# Altium integrated library Linear Technology Power Management Switching Regulator LTC1174-LTC3901.IntLib: 2647 symbols (part 36 of 364)
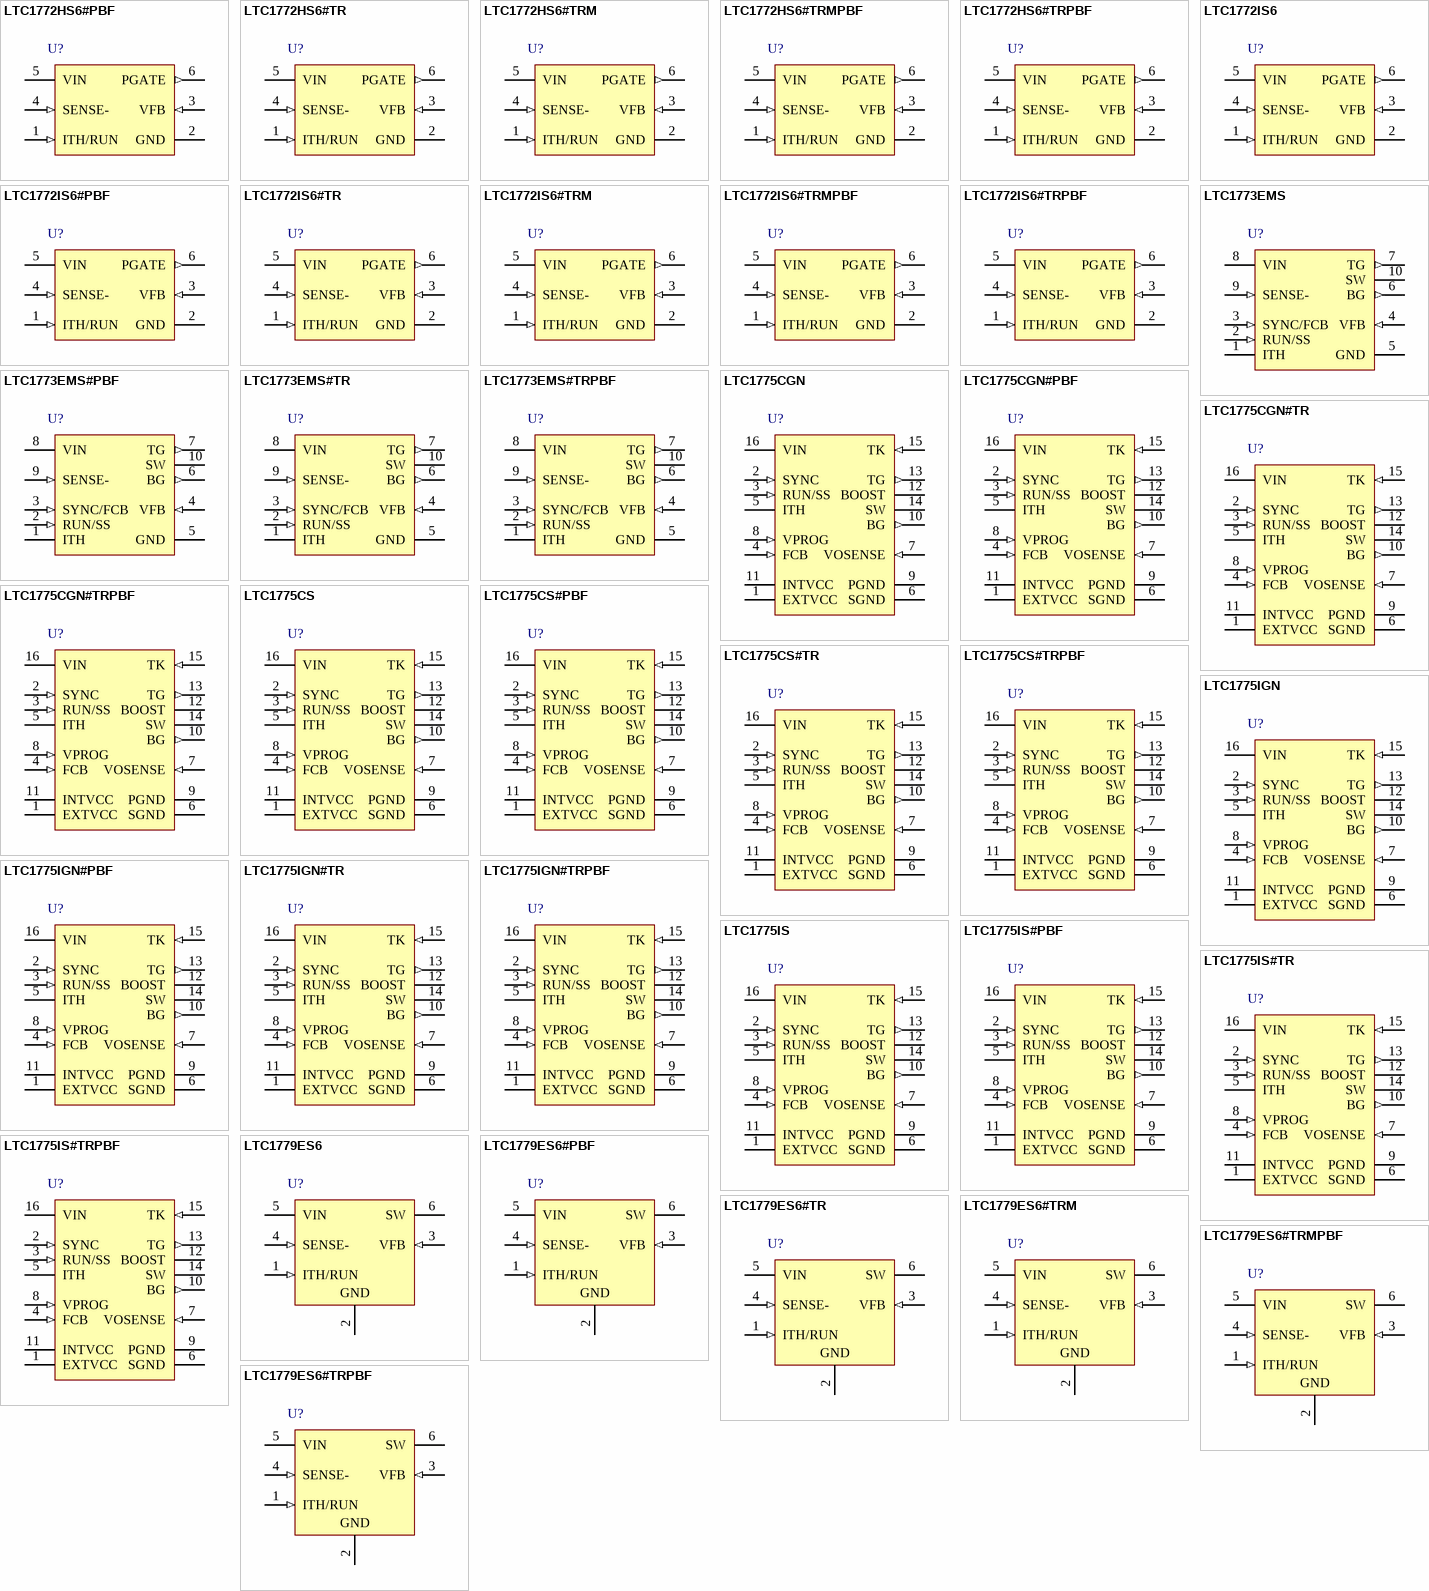
[diagram p134: symbols LTC1772HS6#PBF to LTC1779ES6#TRPBF]

## LTC1775IGN#TR
designator U?
High Power No Rsense(TM) Current Mode Synchronous Step-Down Switching Regulator, 16-pin SOP (GN-16), -40 to 85 degC, Tape and Reel; Manufacturer: Linear Technology; PartNumber: LTC1775IGN#TR; Frequency Sync Range: 150kHz - 225kHz; Number of Outputs: 1; PackageVersion: Rev. B, 03/2012; PackageReference: GN-16; PackageDescription: 16-Pin Plastic SSOP, Body 4.9 x 3.9 mm, Pitch 0.635 mm; Supplier 1: Digi-Key; Supplier Part Number 1: LTC1775IGN#TR-ND; Packing: Tape and Reel; RoHS: FALSE; Mounting Technology: Surface Mount; ComponentLink1Description: Manufacturer URL; ComponentLink1URL: http://www.linear.com/; ComponentLink2Description: Datasheet; ComponentLink2URL: http://cds.linear.com/docs/en/datasheet/1775f.pdf; ComponentLink3Description: Package Specification; ComponentLink3URL: http://cds.linear.com/docs/en/packaging/05081641_B_GN16.pdf
footprint LT-GN-16_N (SOP, 16-Leads, Body 5x4mm, Pitch 0.635mm, IPC Medium Density)
footprint LT-GN-16_L (SOP, 16-Leads, Body 5x4mm, Pitch 0.635mm, IPC High Density)
footprint LT-GN-16_M (SOP, 16-Leads, Body 5x4mm, Pitch 0.635mm, IPC Low Density)
pins: 1 EXTVCC (power) "INTVCC Switch Input. When the EXTVCC voltage is above 4.7V, the switch closes and supplies INTVCC power from EXTVCC. Do not exceed 7V at this pin.", 2 SYNC (in) "Synchronization Input for Internal Oscillator. The oscillator will nominally run at 150kHz when open, 225kHz when tied above 1.2V, and will lock over a 1.5:1 clock frequency range.", 3 RUN/SS (in) "Run Control and Soft Start Input. A capacitor to ground at this pin sets the ramp time to full current output (approximately 1s/uF). Forcing this pin below 1.4V shuts down the device.", 4 FCB (in) "Forced Continuous Input. Tie this pin to ground to force synchronous operation at low load currents, to a resistive divider from the secondary output when using a secondary winding, or to INTVCC to enable Burst Mode (See Datasheet)", 5 ITH "Error Amplifier Compensation Point. The current comparator threshold increases with this control voltage, forcing inductor current to be roughly proportional to VITH. Nominal voltage range for this pin is 0V to 2.4V.", 6 SGND (power) "Signal Ground. Connect to the (-) terminal of COUT.", 7 VOSENSE (in) "Output Voltage Sense. Feedback input from the remotely sensed output voltage or from an external resistive divider across the output.", 8 VPROG (in) "Output Voltage Programming. When VOSENSE is connected to the output, VPROG < 0.8V selects a 3.3V output and VPROG > 3.5V selects a 5V output.Leaving VPROG open allows the output voltage to be set by an external resistive (See Datasheet)", 9 PGND (power) "Driver Power Ground. Connects to the source of the bottom N channel MOSFET, the (-) terminal of CVCC and the (-) terminal of CIN.", 10 BG (out) "Bottom Gate Drive. Drives the gate of the bottom N-channel MOSFET between ground and INTVCC.", 11 INTVCC (power) "Internal 5.2V Regulator Output. The driver and control circuits are powered from this voltage. Decouple this pin to power ground with a minimum of 4.7uF tantalum or other low ESR capacitor.", 12 BOOST "Topside Floating Driver Supply. The (+) terminal of the bootstrap capacitor connects here. This pin swings from a Schottky diode drop below INTVCC to VIN + INTVCC.", 13 TG (out) "Top Gate Drive. Drives the top N-channel MOSFET with a voltage swing equal to INTVCC superimposed on the switch node voltage.", 14 SW "Switch Node. The (-) terminal of the bootstrap capacitor connects here. This pin swings from a diode drop below ground up to VIN.", 15 TK (in) "Top MOSFET Kelvin Sense. MOSFET VDS sensing requires this pin to be routed to the drain of the top MOSFET separately from VIN.", 16 VIN (power) "Main Supply Input. Decouple this pin to ground with an RC filter (1ohm, 0.1uF) for applications above 3A."

## LTC1775IGN#TRPBF
designator U?
High Power No Rsense(TM) Current Mode Synchronous Step-Down Switching Regulator, 16-pin SOP (GN-16), -40 to 85 degC, Pb-Free, Tape and Reel; Manufacturer: Linear Technology; PartNumber: LTC1775IGN#TRPBF; Frequency Sync Range: 150kHz - 225kHz; Number of Outputs: 1; PackageVersion: Rev. B, 03/2012; PackageReference: GN-16; PackageDescription: 16-Pin Plastic SSOP, Body 4.9 x 3.9 mm, Pitch 0.635 mm; Supplier 1: Digi-Key; Supplier Part Number 1: LTC1775IGN#TRPBF-ND; Supplier 2: Newark; Supplier Part Number 2: 56M3788; Packing: Tape and Reel; RoHS: TRUE; Mounting Technology: Surface Mount; ComponentLink1Description: Manufacturer URL; ComponentLink1URL: http://www.linear.com/; ComponentLink2Description: Datasheet; ComponentLink2URL: http://cds.linear.com/docs/en/datasheet/1775f.pdf; ComponentLink3Description: Package Specification; ComponentLink3URL: http://cds.linear.com/docs/en/packaging/05081641_B_GN16.pdf
footprint LT-GN-16_N (SOP, 16-Leads, Body 5x4mm, Pitch 0.635mm, IPC Medium Density)
footprint LT-GN-16_L (SOP, 16-Leads, Body 5x4mm, Pitch 0.635mm, IPC High Density)
footprint LT-GN-16_M (SOP, 16-Leads, Body 5x4mm, Pitch 0.635mm, IPC Low Density)
pins: 1 EXTVCC (power) "INTVCC Switch Input. When the EXTVCC voltage is above 4.7V, the switch closes and supplies INTVCC power from EXTVCC. Do not exceed 7V at this pin.", 2 SYNC (in) "Synchronization Input for Internal Oscillator. The oscillator will nominally run at 150kHz when open, 225kHz when tied above 1.2V, and will lock over a 1.5:1 clock frequency range.", 3 RUN/SS (in) "Run Control and Soft Start Input. A capacitor to ground at this pin sets the ramp time to full current output (approximately 1s/uF). Forcing this pin below 1.4V shuts down the device.", 4 FCB (in) "Forced Continuous Input. Tie this pin to ground to force synchronous operation at low load currents, to a resistive divider from the secondary output when using a secondary winding, or to INTVCC to enable Burst Mode (See Datasheet)", 5 ITH "Error Amplifier Compensation Point. The current comparator threshold increases with this control voltage, forcing inductor current to be roughly proportional to VITH. Nominal voltage range for this pin is 0V to 2.4V.", 6 SGND (power) "Signal Ground. Connect to the (-) terminal of COUT.", 7 VOSENSE (in) "Output Voltage Sense. Feedback input from the remotely sensed output voltage or from an external resistive divider across the output.", 8 VPROG (in) "Output Voltage Programming. When VOSENSE is connected to the output, VPROG < 0.8V selects a 3.3V output and VPROG > 3.5V selects a 5V output.Leaving VPROG open allows the output voltage to be set by an external resistive (See Datasheet)", 9 PGND (power) "Driver Power Ground. Connects to the source of the bottom N channel MOSFET, the (-) terminal of CVCC and the (-) terminal of CIN.", 10 BG (out) "Bottom Gate Drive. Drives the gate of the bottom N-channel MOSFET between ground and INTVCC.", 11 INTVCC (power) "Internal 5.2V Regulator Output. The driver and control circuits are powered from this voltage. Decouple this pin to power ground with a minimum of 4.7uF tantalum or other low ESR capacitor.", 12 BOOST "Topside Floating Driver Supply. The (+) terminal of the bootstrap capacitor connects here. This pin swings from a Schottky diode drop below INTVCC to VIN + INTVCC.", 13 TG (out) "Top Gate Drive. Drives the top N-channel MOSFET with a voltage swing equal to INTVCC superimposed on the switch node voltage.", 14 SW "Switch Node. The (-) terminal of the bootstrap capacitor connects here. This pin swings from a diode drop below ground up to VIN.", 15 TK (in) "Top MOSFET Kelvin Sense. MOSFET VDS sensing requires this pin to be routed to the drain of the top MOSFET separately from VIN.", 16 VIN (power) "Main Supply Input. Decouple this pin to ground with an RC filter (1ohm, 0.1uF) for applications above 3A."

## LTC1775IS
designator U?
High Power No Rsense(TM) Current Mode Synchronous Step-Down Switching Regulator, 16-pin SOP (S-16), -40 to 85 degC; Manufacturer: Linear Technology; PartNumber: LTC1775IS; Frequency Sync Range: 150kHz - 225kHz; Number of Outputs: 1; PackageVersion: Rev. G, 05/2012; PackageReference: S-16; PackageDescription: 16-Pin Plastic Small Outline, Body 9.9 x 3.9 mm, Pitch 1.27 mm; Supplier 1: Digi-Key; Supplier Part Number 1: LTC1775IS-ND; Supplier 2: Newark; Supplier Part Number 2: 56M3789; RoHS: FALSE; Mounting Technology: Surface Mount; ComponentLink1Description: Manufacturer URL; ComponentLink1URL: http://www.linear.com/; ComponentLink2Description: Datasheet; ComponentLink2URL: http://cds.linear.com/docs/en/datasheet/1775f.pdf; ComponentLink3Description: Package Specification; ComponentLink3URL: http://cds.linear.com/docs/en/packaging/S16%2005-08-1610%20Rev%20G.pdf
footprint LT-S-16_N (SOP, 16-Leads, Body 10x4mm, Pitch 1.27mm, IPC Medium Density)
footprint LT-S-16_L (SOP, 16-Leads, Body 10x4mm, Pitch 1.27mm, IPC High Density)
footprint LT-S-16_M (SOP, 16-Leads, Body 10x4mm, Pitch 1.27mm, IPC Low Density)
pins: 1 EXTVCC (power) "INTVCC Switch Input. When the EXTVCC voltage is above 4.7V, the switch closes and supplies INTVCC power from EXTVCC. Do not exceed 7V at this pin.", 2 SYNC (in) "Synchronization Input for Internal Oscillator. The oscillator will nominally run at 150kHz when open, 225kHz when tied above 1.2V, and will lock over a 1.5:1 clock frequency range.", 3 RUN/SS (in) "Run Control and Soft Start Input. A capacitor to ground at this pin sets the ramp time to full current output (approximately 1s/uF). Forcing this pin below 1.4V shuts down the device.", 4 FCB (in) "Forced Continuous Input. Tie this pin to ground to force synchronous operation at low load currents, to a resistive divider from the secondary output when using a secondary winding, or to INTVCC to enable Burst Mode (See Datasheet)", 5 ITH "Error Amplifier Compensation Point. The current comparator threshold increases with this control voltage, forcing inductor current to be roughly proportional to VITH. Nominal voltage range for this pin is 0V to 2.4V.", 6 SGND (power) "Signal Ground. Connect to the (-) terminal of COUT.", 7 VOSENSE (in) "Output Voltage Sense. Feedback input from the remotely sensed output voltage or from an external resistive divider across the output.", 8 VPROG (in) "Output Voltage Programming. When VOSENSE is connected to the output, VPROG < 0.8V selects a 3.3V output and VPROG > 3.5V selects a 5V output.Leaving VPROG open allows the output voltage to be set by an external resistive (See Datasheet)", 9 PGND (power) "Driver Power Ground. Connects to the source of the bottom N channel MOSFET, the (-) terminal of CVCC and the (-) terminal of CIN.", 10 BG (out) "Bottom Gate Drive. Drives the gate of the bottom N-channel MOSFET between ground and INTVCC.", 11 INTVCC (power) "Internal 5.2V Regulator Output. The driver and control circuits are powered from this voltage. Decouple this pin to power ground with a minimum of 4.7uF tantalum or other low ESR capacitor.", 12 BOOST "Topside Floating Driver Supply. The (+) terminal of the bootstrap capacitor connects here. This pin swings from a Schottky diode drop below INTVCC to VIN + INTVCC.", 13 TG (out) "Top Gate Drive. Drives the top N-channel MOSFET with a voltage swing equal to INTVCC superimposed on the switch node voltage.", 14 SW "Switch Node. The (-) terminal of the bootstrap capacitor connects here. This pin swings from a diode drop below ground up to VIN.", 15 TK (in) "Top MOSFET Kelvin Sense. MOSFET VDS sensing requires this pin to be routed to the drain of the top MOSFET separately from VIN.", 16 VIN (power) "Main Supply Input. Decouple this pin to ground with an RC filter (1ohm, 0.1uF) for applications above 3A."

## LTC1775IS#PBF
designator U?
High Power No Rsense(TM) Current Mode Synchronous Step-Down Switching Regulator, 16-pin SOP (S-16), -40 to 85 degC, Pb-Free; Manufacturer: Linear Technology; PartNumber: LTC1775IS#PBF; Frequency Sync Range: 150kHz - 225kHz; Number of Outputs: 1; PackageVersion: Rev. G, 05/2012; PackageReference: S-16; PackageDescription: 16-Pin Plastic Small Outline, Body 9.9 x 3.9 mm, Pitch 1.27 mm; Supplier 1: Digi-Key; Supplier Part Number 1: LTC1775IS#PBF-ND; Supplier 2: Farnell; Supplier Part Number 2: 2295016; Supplier 3: Newark; Supplier Part Number 3: 56M3790; RoHS: TRUE; Mounting Technology: Surface Mount; ComponentLink1Description: Manufacturer URL; ComponentLink1URL: http://www.linear.com/; ComponentLink2Description: Datasheet; ComponentLink2URL: http://cds.linear.com/docs/en/datasheet/1775f.pdf; ComponentLink3Description: Package Specification; ComponentLink3URL: http://cds.linear.com/docs/en/packaging/S16%2005-08-1610%20Rev%20G.pdf
footprint LT-S-16_N (SOP, 16-Leads, Body 10x4mm, Pitch 1.27mm, IPC Medium Density)
footprint LT-S-16_L (SOP, 16-Leads, Body 10x4mm, Pitch 1.27mm, IPC High Density)
footprint LT-S-16_M (SOP, 16-Leads, Body 10x4mm, Pitch 1.27mm, IPC Low Density)
pins: 1 EXTVCC (power) "INTVCC Switch Input. When the EXTVCC voltage is above 4.7V, the switch closes and supplies INTVCC power from EXTVCC. Do not exceed 7V at this pin.", 2 SYNC (in) "Synchronization Input for Internal Oscillator. The oscillator will nominally run at 150kHz when open, 225kHz when tied above 1.2V, and will lock over a 1.5:1 clock frequency range.", 3 RUN/SS (in) "Run Control and Soft Start Input. A capacitor to ground at this pin sets the ramp time to full current output (approximately 1s/uF). Forcing this pin below 1.4V shuts down the device.", 4 FCB (in) "Forced Continuous Input. Tie this pin to ground to force synchronous operation at low load currents, to a resistive divider from the secondary output when using a secondary winding, or to INTVCC to enable Burst Mode (See Datasheet)", 5 ITH "Error Amplifier Compensation Point. The current comparator threshold increases with this control voltage, forcing inductor current to be roughly proportional to VITH. Nominal voltage range for this pin is 0V to 2.4V.", 6 SGND (power) "Signal Ground. Connect to the (-) terminal of COUT.", 7 VOSENSE (in) "Output Voltage Sense. Feedback input from the remotely sensed output voltage or from an external resistive divider across the output.", 8 VPROG (in) "Output Voltage Programming. When VOSENSE is connected to the output, VPROG < 0.8V selects a 3.3V output and VPROG > 3.5V selects a 5V output.Leaving VPROG open allows the output voltage to be set by an external resistive (See Datasheet)", 9 PGND (power) "Driver Power Ground. Connects to the source of the bottom N channel MOSFET, the (-) terminal of CVCC and the (-) terminal of CIN.", 10 BG (out) "Bottom Gate Drive. Drives the gate of the bottom N-channel MOSFET between ground and INTVCC.", 11 INTVCC (power) "Internal 5.2V Regulator Output. The driver and control circuits are powered from this voltage. Decouple this pin to power ground with a minimum of 4.7uF tantalum or other low ESR capacitor.", 12 BOOST "Topside Floating Driver Supply. The (+) terminal of the bootstrap capacitor connects here. This pin swings from a Schottky diode drop below INTVCC to VIN + INTVCC.", 13 TG (out) "Top Gate Drive. Drives the top N-channel MOSFET with a voltage swing equal to INTVCC superimposed on the switch node voltage.", 14 SW "Switch Node. The (-) terminal of the bootstrap capacitor connects here. This pin swings from a diode drop below ground up to VIN.", 15 TK (in) "Top MOSFET Kelvin Sense. MOSFET VDS sensing requires this pin to be routed to the drain of the top MOSFET separately from VIN.", 16 VIN (power) "Main Supply Input. Decouple this pin to ground with an RC filter (1ohm, 0.1uF) for applications above 3A."

## LTC1775IS#TR
designator U?
High Power No Rsense(TM) Current Mode Synchronous Step-Down Switching Regulator, 16-pin SOP (S-16), -40 to 85 degC, Tape and Reel; Manufacturer: Linear Technology; PartNumber: LTC1775IS#TR; Frequency Sync Range: 150kHz - 225kHz; Number of Outputs: 1; PackageVersion: Rev. G, 05/2012; PackageReference: S-16; PackageDescription: 16-Pin Plastic Small Outline, Body 9.9 x 3.9 mm, Pitch 1.27 mm; Supplier 1: Digi-Key; Supplier Part Number 1: LTC1775IS#TR-ND; Packing: Tape and Reel; RoHS: FALSE; Mounting Technology: Surface Mount; ComponentLink1Description: Manufacturer URL; ComponentLink1URL: http://www.linear.com/; ComponentLink2Description: Datasheet; ComponentLink2URL: http://cds.linear.com/docs/en/datasheet/1775f.pdf; ComponentLink3Description: Package Specification; ComponentLink3URL: http://cds.linear.com/docs/en/packaging/S16%2005-08-1610%20Rev%20G.pdf
footprint LT-S-16_N (SOP, 16-Leads, Body 10x4mm, Pitch 1.27mm, IPC Medium Density)
footprint LT-S-16_L (SOP, 16-Leads, Body 10x4mm, Pitch 1.27mm, IPC High Density)
footprint LT-S-16_M (SOP, 16-Leads, Body 10x4mm, Pitch 1.27mm, IPC Low Density)
pins: 1 EXTVCC (power) "INTVCC Switch Input. When the EXTVCC voltage is above 4.7V, the switch closes and supplies INTVCC power from EXTVCC. Do not exceed 7V at this pin.", 2 SYNC (in) "Synchronization Input for Internal Oscillator. The oscillator will nominally run at 150kHz when open, 225kHz when tied above 1.2V, and will lock over a 1.5:1 clock frequency range.", 3 RUN/SS (in) "Run Control and Soft Start Input. A capacitor to ground at this pin sets the ramp time to full current output (approximately 1s/uF). Forcing this pin below 1.4V shuts down the device.", 4 FCB (in) "Forced Continuous Input. Tie this pin to ground to force synchronous operation at low load currents, to a resistive divider from the secondary output when using a secondary winding, or to INTVCC to enable Burst Mode (See Datasheet)", 5 ITH "Error Amplifier Compensation Point. The current comparator threshold increases with this control voltage, forcing inductor current to be roughly proportional to VITH. Nominal voltage range for this pin is 0V to 2.4V.", 6 SGND (power) "Signal Ground. Connect to the (-) terminal of COUT.", 7 VOSENSE (in) "Output Voltage Sense. Feedback input from the remotely sensed output voltage or from an external resistive divider across the output.", 8 VPROG (in) "Output Voltage Programming. When VOSENSE is connected to the output, VPROG < 0.8V selects a 3.3V output and VPROG > 3.5V selects a 5V output.Leaving VPROG open allows the output voltage to be set by an external resistive (See Datasheet)", 9 PGND (power) "Driver Power Ground. Connects to the source of the bottom N channel MOSFET, the (-) terminal of CVCC and the (-) terminal of CIN.", 10 BG (out) "Bottom Gate Drive. Drives the gate of the bottom N-channel MOSFET between ground and INTVCC.", 11 INTVCC (power) "Internal 5.2V Regulator Output. The driver and control circuits are powered from this voltage. Decouple this pin to power ground with a minimum of 4.7uF tantalum or other low ESR capacitor.", 12 BOOST "Topside Floating Driver Supply. The (+) terminal of the bootstrap capacitor connects here. This pin swings from a Schottky diode drop below INTVCC to VIN + INTVCC.", 13 TG (out) "Top Gate Drive. Drives the top N-channel MOSFET with a voltage swing equal to INTVCC superimposed on the switch node voltage.", 14 SW "Switch Node. The (-) terminal of the bootstrap capacitor connects here. This pin swings from a diode drop below ground up to VIN.", 15 TK (in) "Top MOSFET Kelvin Sense. MOSFET VDS sensing requires this pin to be routed to the drain of the top MOSFET separately from VIN.", 16 VIN (power) "Main Supply Input. Decouple this pin to ground with an RC filter (1ohm, 0.1uF) for applications above 3A."

## LTC1775IS#TRPBF
designator U?
High Power No Rsense(TM) Current Mode Synchronous Step-Down Switching Regulator, 16-pin SOP (S-16), -40 to 85 degC, Pb-Free, Tape and Reel; Manufacturer: Linear Technology; PartNumber: LTC1775IS#TRPBF; Frequency Sync Range: 150kHz - 225kHz; Number of Outputs: 1; PackageVersion: Rev. G, 05/2012; PackageReference: S-16; PackageDescription: 16-Pin Plastic Small Outline, Body 9.9 x 3.9 mm, Pitch 1.27 mm; Supplier 1: Digi-Key; Supplier Part Number 1: LTC1775IS#TRPBF-ND; Supplier 2: Newark; Supplier Part Number 2: 56M3792; Packing: Tape and Reel; RoHS: TRUE; Mounting Technology: Surface Mount; ComponentLink1Description: Manufacturer URL; ComponentLink1URL: http://www.linear.com/; ComponentLink2Description: Datasheet; ComponentLink2URL: http://cds.linear.com/docs/en/datasheet/1775f.pdf; ComponentLink3Description: Package Specification; ComponentLink3URL: http://cds.linear.com/docs/en/packaging/S16%2005-08-1610%20Rev%20G.pdf
footprint LT-S-16_N (SOP, 16-Leads, Body 10x4mm, Pitch 1.27mm, IPC Medium Density)
footprint LT-S-16_L (SOP, 16-Leads, Body 10x4mm, Pitch 1.27mm, IPC High Density)
footprint LT-S-16_M (SOP, 16-Leads, Body 10x4mm, Pitch 1.27mm, IPC Low Density)
pins: 1 EXTVCC (power) "INTVCC Switch Input. When the EXTVCC voltage is above 4.7V, the switch closes and supplies INTVCC power from EXTVCC. Do not exceed 7V at this pin.", 2 SYNC (in) "Synchronization Input for Internal Oscillator. The oscillator will nominally run at 150kHz when open, 225kHz when tied above 1.2V, and will lock over a 1.5:1 clock frequency range.", 3 RUN/SS (in) "Run Control and Soft Start Input. A capacitor to ground at this pin sets the ramp time to full current output (approximately 1s/uF). Forcing this pin below 1.4V shuts down the device.", 4 FCB (in) "Forced Continuous Input. Tie this pin to ground to force synchronous operation at low load currents, to a resistive divider from the secondary output when using a secondary winding, or to INTVCC to enable Burst Mode (See Datasheet)", 5 ITH "Error Amplifier Compensation Point. The current comparator threshold increases with this control voltage, forcing inductor current to be roughly proportional to VITH. Nominal voltage range for this pin is 0V to 2.4V.", 6 SGND (power) "Signal Ground. Connect to the (-) terminal of COUT.", 7 VOSENSE (in) "Output Voltage Sense. Feedback input from the remotely sensed output voltage or from an external resistive divider across the output.", 8 VPROG (in) "Output Voltage Programming. When VOSENSE is connected to the output, VPROG < 0.8V selects a 3.3V output and VPROG > 3.5V selects a 5V output.Leaving VPROG open allows the output voltage to be set by an external resistive (See Datasheet)", 9 PGND (power) "Driver Power Ground. Connects to the source of the bottom N channel MOSFET, the (-) terminal of CVCC and the (-) terminal of CIN.", 10 BG (out) "Bottom Gate Drive. Drives the gate of the bottom N-channel MOSFET between ground and INTVCC.", 11 INTVCC (power) "Internal 5.2V Regulator Output. The driver and control circuits are powered from this voltage. Decouple this pin to power ground with a minimum of 4.7uF tantalum or other low ESR capacitor.", 12 BOOST "Topside Floating Driver Supply. The (+) terminal of the bootstrap capacitor connects here. This pin swings from a Schottky diode drop below INTVCC to VIN + INTVCC.", 13 TG (out) "Top Gate Drive. Drives the top N-channel MOSFET with a voltage swing equal to INTVCC superimposed on the switch node voltage.", 14 SW "Switch Node. The (-) terminal of the bootstrap capacitor connects here. This pin swings from a diode drop below ground up to VIN.", 15 TK (in) "Top MOSFET Kelvin Sense. MOSFET VDS sensing requires this pin to be routed to the drain of the top MOSFET separately from VIN.", 16 VIN (power) "Main Supply Input. Decouple this pin to ground with an RC filter (1ohm, 0.1uF) for applications above 3A."

## LTC1779ES6
designator U?
250 mA Current Mode Step-Down DC/DC Converter , 6-pin SOT23 (S6-6), -40 to 85 degC; Manufacturer: Linear Technology; PartNumber: LTC1779ES6; Number of Outputs: 1; PackageVersion: Jun-10; PackageReference: S6-6; PackageDescription: 6-Pin Plastic TSOT-23, Body 2.9 x 1.63 mm, Pitch 0.95 mm; RoHS: FALSE; Mounting Technology: Surface Mount; Code_JEDEC: MO-193; ComponentLink1Description: Manufacturer URL; ComponentLink1URL: http://www.linear.com/; ComponentLink2Description: Datasheet; ComponentLink2URL: http://cds.linear.com/docs/en/datasheet/1779f.pdf; ComponentLink3Description: Package Specification; ComponentLink3URL: http://cds.linear.com/docs/en/packaging/SOT_6_05-08-1636.pdf
footprint LT-S6-6-TSOT-23_N (SOT23, 6-Leads, Body 2.9x1.75mm, Pitch 0.95mm, IPC Medium Density)
footprint LT-S6-6-TSOT-23_L (SOT23, 6-Leads, Body 2.9x1.75mm, Pitch 0.95mm, IPC High Density)
footprint LT-S6-6-TSOT-23_M (SOT23, 6-Leads, Body 2.9x1.75mm, Pitch 0.95mm, IPC Low Density)
pins: 1 ITH/RUN (in) "This pin performs two functions. It serves as the error amplifier compensation point as well as the run control input. The current comparator threshold increases with this control voltage. Nominal voltage range for this pin (See Datasheet)", 2 GND (power) "Ground Pin.", 3 VFB (in) "Receives the feedback voltage from an external resistive divider across the output.", 4 SENSE- (in) "The Negative Input to the Current Comparator. Can be connected to VIN for default minimum peak current of 250mA. Connecting a resistor between SENSE- and VIN specifies a lower peak current. (See Applications Information for (See Datasheet)", 5 VIN (power) "Supply Pin. Must be closely decoupled to GND Pin 2.", 6 SW (power) "Switching Node and Drain of Internal P-Channel Power MOSFET. Connects to external inductor and catch diode."

## LTC1779ES6#PBF
designator U?
250 mA Current Mode Step-Down DC/DC Converter , 6-pin SOT23 (S6-6), -40 to 85 degC, Pb-Free; Manufacturer: Linear Technology; PartNumber: LTC1779ES6#PBF; Number of Outputs: 1; PackageVersion: Jun-10; PackageReference: S6-6; PackageDescription: 6-Pin Plastic TSOT-23, Body 2.9 x 1.63 mm, Pitch 0.95 mm; Supplier 1: Newark; Supplier Part Number 1: 78T2527; RoHS: TRUE; Mounting Technology: Surface Mount; Code_JEDEC: MO-193; ComponentLink1Description: Manufacturer URL; ComponentLink1URL: http://www.linear.com/; ComponentLink2Description: Datasheet; ComponentLink2URL: http://cds.linear.com/docs/en/datasheet/1779f.pdf; ComponentLink3Description: Package Specification; ComponentLink3URL: http://cds.linear.com/docs/en/packaging/SOT_6_05-08-1636.pdf
footprint LT-S6-6-TSOT-23_N (SOT23, 6-Leads, Body 2.9x1.75mm, Pitch 0.95mm, IPC Medium Density)
footprint LT-S6-6-TSOT-23_L (SOT23, 6-Leads, Body 2.9x1.75mm, Pitch 0.95mm, IPC High Density)
footprint LT-S6-6-TSOT-23_M (SOT23, 6-Leads, Body 2.9x1.75mm, Pitch 0.95mm, IPC Low Density)
pins: 1 ITH/RUN (in) "This pin performs two functions. It serves as the error amplifier compensation point as well as the run control input. The current comparator threshold increases with this control voltage. Nominal voltage range for this pin (See Datasheet)", 2 GND (power) "Ground Pin.", 3 VFB (in) "Receives the feedback voltage from an external resistive divider across the output.", 4 SENSE- (in) "The Negative Input to the Current Comparator. Can be connected to VIN for default minimum peak current of 250mA. Connecting a resistor between SENSE- and VIN specifies a lower peak current. (See Applications Information for (See Datasheet)", 5 VIN (power) "Supply Pin. Must be closely decoupled to GND Pin 2.", 6 SW (power) "Switching Node and Drain of Internal P-Channel Power MOSFET. Connects to external inductor and catch diode."

## LTC1779ES6#TR
designator U?
250 mA Current Mode Step-Down DC/DC Converter , 6-pin SOT23 (S6-6), -40 to 85 degC, Tape and Reel; Manufacturer: Linear Technology; PartNumber: LTC1779ES6#TR; Number of Outputs: 1; PackageVersion: Jun-10; PackageReference: S6-6; PackageDescription: 6-Pin Plastic TSOT-23, Body 2.9 x 1.63 mm, Pitch 0.95 mm; Supplier 1: Digi-Key; Supplier Part Number 1: LTC1779ES6TR-ND; Packing: Tape and Reel; RoHS: FALSE; Mounting Technology: Surface Mount; Code_JEDEC: MO-193; ComponentLink1Description: Manufacturer URL; ComponentLink1URL: http://www.linear.com/; ComponentLink2Description: Datasheet; ComponentLink2URL: http://cds.linear.com/docs/en/datasheet/1779f.pdf; ComponentLink3Description: Package Specification; ComponentLink3URL: http://cds.linear.com/docs/en/packaging/SOT_6_05-08-1636.pdf
footprint LT-S6-6-TSOT-23_N (SOT23, 6-Leads, Body 2.9x1.75mm, Pitch 0.95mm, IPC Medium Density)
footprint LT-S6-6-TSOT-23_L (SOT23, 6-Leads, Body 2.9x1.75mm, Pitch 0.95mm, IPC High Density)
footprint LT-S6-6-TSOT-23_M (SOT23, 6-Leads, Body 2.9x1.75mm, Pitch 0.95mm, IPC Low Density)
pins: 1 ITH/RUN (in) "This pin performs two functions. It serves as the error amplifier compensation point as well as the run control input. The current comparator threshold increases with this control voltage. Nominal voltage range for this pin (See Datasheet)", 2 GND (power) "Ground Pin.", 3 VFB (in) "Receives the feedback voltage from an external resistive divider across the output.", 4 SENSE- (in) "The Negative Input to the Current Comparator. Can be connected to VIN for default minimum peak current of 250mA. Connecting a resistor between SENSE- and VIN specifies a lower peak current. (See Applications Information for (See Datasheet)", 5 VIN (power) "Supply Pin. Must be closely decoupled to GND Pin 2.", 6 SW (power) "Switching Node and Drain of Internal P-Channel Power MOSFET. Connects to external inductor and catch diode."

## LTC1779ES6#TRM
designator U?
250 mA Current Mode Step-Down DC/DC Converter , 6-pin SOT23 (S6-6), -40 to 85 degC, Mini Tape and Reel; Manufacturer: Linear Technology; PartNumber: LTC1779ES6#TRM; Number of Outputs: 1; PackageVersion: Jun-10; PackageReference: S6-6; PackageDescription: 6-Pin Plastic TSOT-23, Body 2.9 x 1.63 mm, Pitch 0.95 mm; Supplier 1: Digi-Key; Supplier Part Number 1: LTC1779ES6#TRMTR-ND; Supplier 2: Digi-Key; Supplier Part Number 2: LTC1779ES6#TRMCT-ND; Packing: Mini Tape and Reel; RoHS: FALSE; Mounting Technology: Surface Mount; Code_JEDEC: MO-193; ComponentLink1Description: Manufacturer URL; ComponentLink1URL: http://www.linear.com/; ComponentLink2Description: Datasheet; ComponentLink2URL: http://cds.linear.com/docs/en/datasheet/1779f.pdf; ComponentLink3Description: Package Specification; ComponentLink3URL: http://cds.linear.com/docs/en/packaging/SOT_6_05-08-1636.pdf
footprint LT-S6-6-TSOT-23_N (SOT23, 6-Leads, Body 2.9x1.75mm, Pitch 0.95mm, IPC Medium Density)
footprint LT-S6-6-TSOT-23_L (SOT23, 6-Leads, Body 2.9x1.75mm, Pitch 0.95mm, IPC High Density)
footprint LT-S6-6-TSOT-23_M (SOT23, 6-Leads, Body 2.9x1.75mm, Pitch 0.95mm, IPC Low Density)
pins: 1 ITH/RUN (in) "This pin performs two functions. It serves as the error amplifier compensation point as well as the run control input. The current comparator threshold increases with this control voltage. Nominal voltage range for this pin (See Datasheet)", 2 GND (power) "Ground Pin.", 3 VFB (in) "Receives the feedback voltage from an external resistive divider across the output.", 4 SENSE- (in) "The Negative Input to the Current Comparator. Can be connected to VIN for default minimum peak current of 250mA. Connecting a resistor between SENSE- and VIN specifies a lower peak current. (See Applications Information for (See Datasheet)", 5 VIN (power) "Supply Pin. Must be closely decoupled to GND Pin 2.", 6 SW (power) "Switching Node and Drain of Internal P-Channel Power MOSFET. Connects to external inductor and catch diode."

## LTC1779ES6#TRMPBF
designator U?
250 mA Current Mode Step-Down DC/DC Converter , 6-pin SOT23 (S6-6), -40 to 85 degC, Pb-Free, Mini Tape and Reel; Manufacturer: Linear Technology; PartNumber: LTC1779ES6#TRMPBF; Number of Outputs: 1; PackageVersion: Jun-10; PackageReference: S6-6; PackageDescription: 6-Pin Plastic TSOT-23, Body 2.9 x 1.63 mm, Pitch 0.95 mm; Supplier 1: Digi-Key; Supplier Part Number 1: LTC1779ES6#TRMPBFTR-ND; Supplier 2: Digi-Key; Supplier Part Number 2: LTC1779ES6#TRMPBFCT-ND; Supplier 3: Digi-Key; Supplier Part Number 3: LTC1779ES6#TRMPBFDKR-ND; Supplier 4: Farnell; Supplier Part Number 4: 1663862RL; Supplier 5: Farnell; Supplier Part Number 5: 1663862; Packing: Mini Tape and Reel; RoHS: TRUE; Mounting Technology: Surface Mount; Code_JEDEC: MO-193; ComponentLink1Description: Manufacturer URL; ComponentLink1URL: http://www.linear.com/; ComponentLink2Description: Datasheet; ComponentLink2URL: http://cds.linear.com/docs/en/datasheet/1779f.pdf; ComponentLink3Description: Package Specification; ComponentLink3URL: http://cds.linear.com/docs/en/packaging/SOT_6_05-08-1636.pdf
footprint LT-S6-6-TSOT-23_N (SOT23, 6-Leads, Body 2.9x1.75mm, Pitch 0.95mm, IPC Medium Density)
footprint LT-S6-6-TSOT-23_L (SOT23, 6-Leads, Body 2.9x1.75mm, Pitch 0.95mm, IPC High Density)
footprint LT-S6-6-TSOT-23_M (SOT23, 6-Leads, Body 2.9x1.75mm, Pitch 0.95mm, IPC Low Density)
pins: 1 ITH/RUN (in) "This pin performs two functions. It serves as the error amplifier compensation point as well as the run control input. The current comparator threshold increases with this control voltage. Nominal voltage range for this pin (See Datasheet)", 2 GND (power) "Ground Pin.", 3 VFB (in) "Receives the feedback voltage from an external resistive divider across the output.", 4 SENSE- (in) "The Negative Input to the Current Comparator. Can be connected to VIN for default minimum peak current of 250mA. Connecting a resistor between SENSE- and VIN specifies a lower peak current. (See Applications Information for (See Datasheet)", 5 VIN (power) "Supply Pin. Must be closely decoupled to GND Pin 2.", 6 SW (power) "Switching Node and Drain of Internal P-Channel Power MOSFET. Connects to external inductor and catch diode."

## LTC1779ES6#TRPBF
designator U?
250 mA Current Mode Step-Down DC/DC Converter , 6-pin SOT23 (S6-6), -40 to 85 degC, Pb-Free, Tape and Reel; Manufacturer: Linear Technology; PartNumber: LTC1779ES6#TRPBF; Number of Outputs: 1; PackageVersion: Jun-10; PackageReference: S6-6; PackageDescription: 6-Pin Plastic TSOT-23, Body 2.9 x 1.63 mm, Pitch 0.95 mm; Supplier 1: Digi-Key; Supplier Part Number 1: LTC1779ES6#TRPBF-ND; Packing: Tape and Reel; RoHS: TRUE; Mounting Technology: Surface Mount; Code_JEDEC: MO-193; ComponentLink1Description: Manufacturer URL; ComponentLink1URL: http://www.linear.com/; ComponentLink2Description: Datasheet; ComponentLink2URL: http://cds.linear.com/docs/en/datasheet/1779f.pdf; ComponentLink3Description: Package Specification; ComponentLink3URL: http://cds.linear.com/docs/en/packaging/SOT_6_05-08-1636.pdf
footprint LT-S6-6-TSOT-23_N (SOT23, 6-Leads, Body 2.9x1.75mm, Pitch 0.95mm, IPC Medium Density)
footprint LT-S6-6-TSOT-23_L (SOT23, 6-Leads, Body 2.9x1.75mm, Pitch 0.95mm, IPC High Density)
footprint LT-S6-6-TSOT-23_M (SOT23, 6-Leads, Body 2.9x1.75mm, Pitch 0.95mm, IPC Low Density)
pins: 1 ITH/RUN (in) "This pin performs two functions. It serves as the error amplifier compensation point as well as the run control input. The current comparator threshold increases with this control voltage. Nominal voltage range for this pin (See Datasheet)", 2 GND (power) "Ground Pin.", 3 VFB (in) "Receives the feedback voltage from an external resistive divider across the output.", 4 SENSE- (in) "The Negative Input to the Current Comparator. Can be connected to VIN for default minimum peak current of 250mA. Connecting a resistor between SENSE- and VIN specifies a lower peak current. (See Applications Information for (See Datasheet)", 5 VIN (power) "Supply Pin. Must be closely decoupled to GND Pin 2.", 6 SW (power) "Switching Node and Drain of Internal P-Channel Power MOSFET. Connects to external inductor and catch diode."

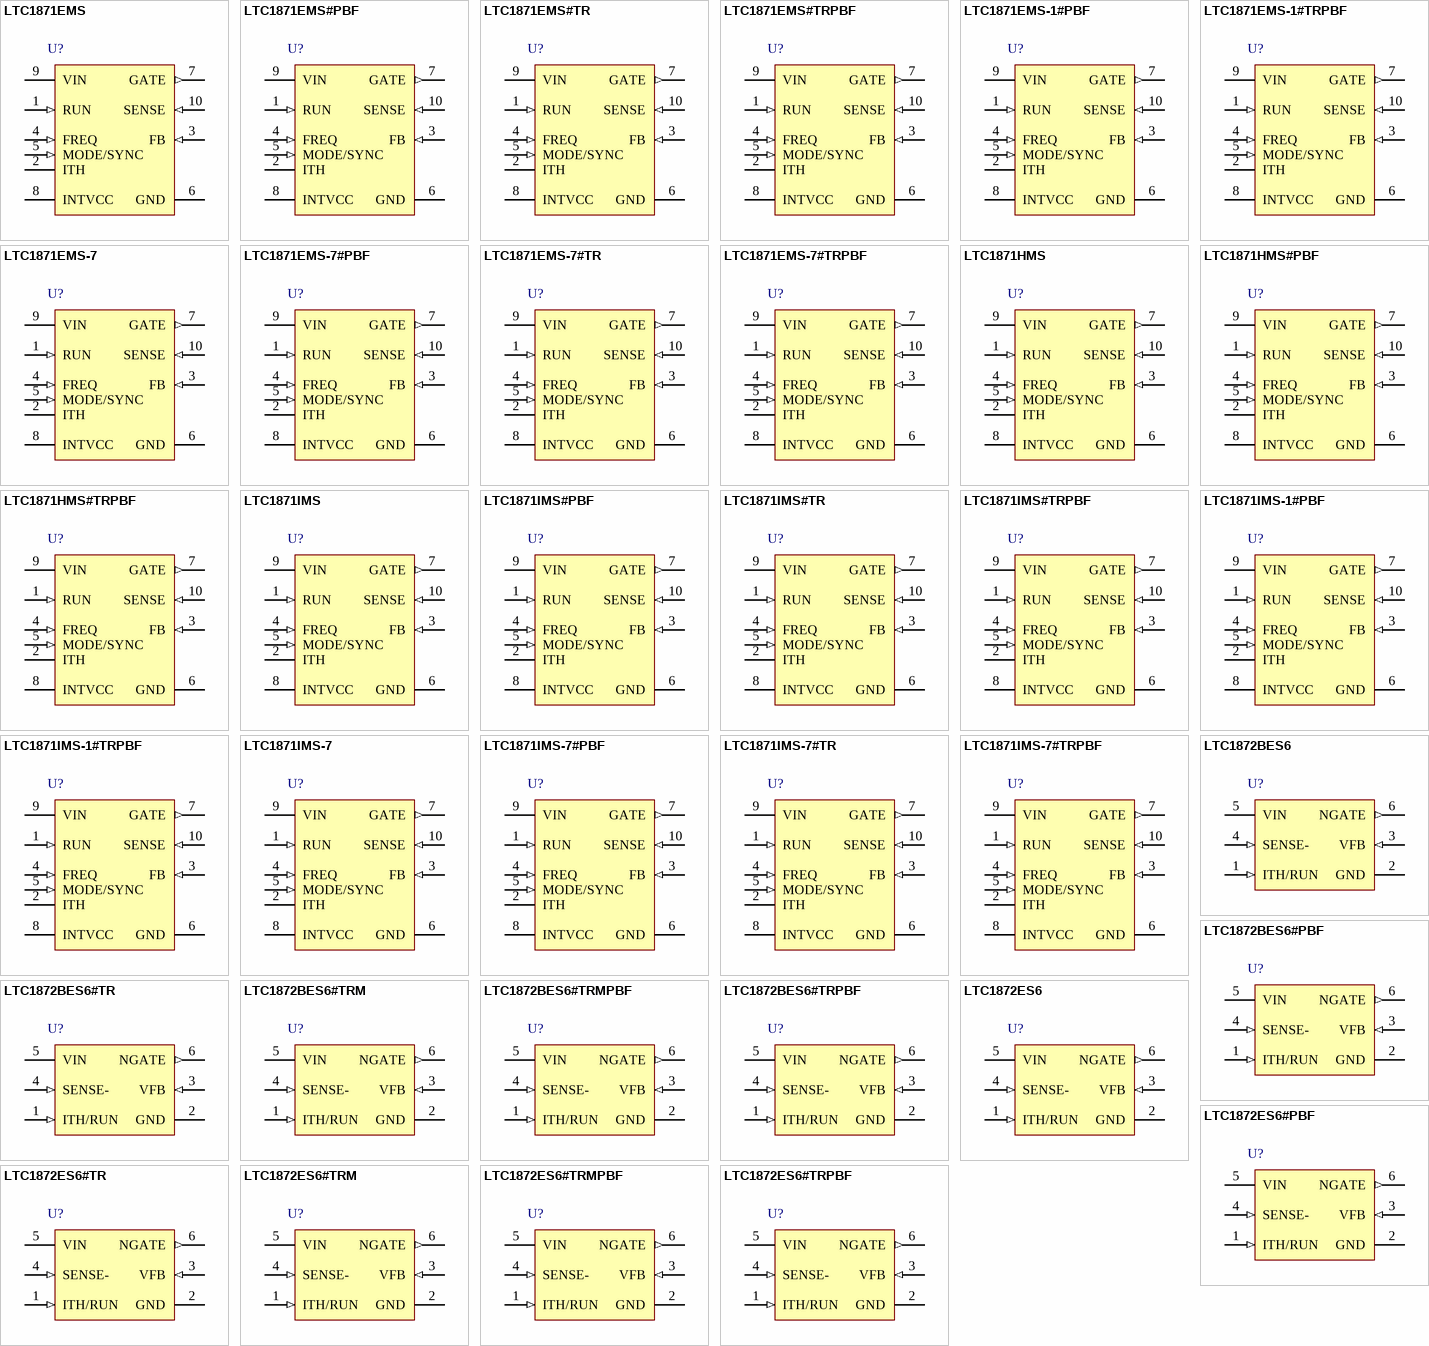
[diagram p11: symbols LTC1871EMS to LTC1872ES6#TRPBF]

## LTC1871EMS
designator U?
Wide Input Range, No Rsense Current Mode Boost, Flyback and SEPIC Controller, 10-pin SOP (MS-10), -40 to 85 degC; Manufacturer: Linear Technology; PartNumber: LTC1871EMS; Number of Outputs: 1; DatasheetVersion: Rev. E; PackageVersion: Rev. E, 06/2010; PackageReference: MS-10; PackageDescription: 10-Pin Plastic MSOP, Body 3 x 3 mm, Pitch 0.5 mm; Supplier 1: Digi-Key; Supplier Part Number 1: LTC1871EMS-ND; Supplier 2: Newark; Supplier Part Number 2: 56M4249; RoHS: FALSE; Mounting Technology: Surface Mount; ComponentLink1Description: Manufacturer URL; ComponentLink1URL: http://www.linear.com/; ComponentLink2Description: Datasheet; ComponentLink2URL: http://cds.linear.com/docs/en/datasheet/1871fe.pdf; ComponentLink3Description: Package Specification; ComponentLink3URL: http://cds.linear.com/docs/en/packaging/05081661_F_MS.pdf
footprint LT-MS-10_N (SOP, 10-Leads, Body 3.1x3.1mm, Pitch 0.5mm, IPC Medium Density)
footprint LT-MS-10_L (SOP, 10-Leads, Body 3.1x3.1mm, Pitch 0.5mm, IPC High Density)
footprint LT-MS-10_M (SOP, 10-Leads, Body 3.1x3.1mm, Pitch 0.5mm, IPC Low Density)
pins: 1 RUN (in) "The RUN pin provides the user with an accurate means for sensing the input voltage and programming the start-up threshold for the converter. The falling RUN pin threshold is nominally 1.248V and the comparator has 100mV of (See Datasheet)", 2 ITH "Error Amplifier Compensation Pin. The current comparator input threshold increases with this control voltage. Nominal voltage range for this pin is 0V to 1.40V.", 3 FB (in) "Receives the feedback voltage from the external resistor divider across the output. Nominal voltage for this pin in regulation is 1.230V.", 4 FREQ (in) "A resistor from the FREQ pin to ground programs the operating frequency of the chip. The nominal voltage at the FREQ pin is 0.6V.", 5 MODE/SYNC (in) "This input controls the operating mode of the converter and allows for synchronizing the operating frequency to an external clock. If the MODE/ SYNC pin is connected to ground, Burst Mode operation is enabled. If the (See Datasheet)", 6 GND (power) "Ground Pin.", 7 GATE (out) "Gate Driver Output.", 8 INTVCC (power) "The Internal Regulator Output. The gate driver and control circuits are powered from this voltage. Decouple this pin locally to the IC ground with a minimum of 4.7uF low ESR tantalum or ceramic capacitor.", 9 VIN (power) "Main Supply Pin. Must be closely decoupled to ground.", 10 SENSE (in) "The Current Sense Input for the Control Loop. Connect this pin to a resistor in the source of the power MOSFET. Alternatively, the SENSE pin may be connected to the drain of the power MOSFET, in applications where the (See Datasheet)"

## LTC1871EMS#PBF
designator U?
Wide Input Range, No Rsense Current Mode Boost, Flyback and SEPIC Controller, 10-pin SOP (MS-10), -40 to 85 degC, Pb-Free; Manufacturer: Linear Technology; PartNumber: LTC1871EMS#PBF; Number of Outputs: 1; DatasheetVersion: Rev. E; PackageVersion: Rev. E, 06/2010; PackageReference: MS-10; PackageDescription: 10-Pin Plastic MSOP, Body 3 x 3 mm, Pitch 0.5 mm; Supplier 1: Digi-Key; Supplier Part Number 1: LTC1871EMS#PBF-ND; Supplier 2: Farnell; Supplier Part Number 2: 1273534; Supplier 3: Newark; Supplier Part Number 3: 56M4256; RoHS: TRUE; Mounting Technology: Surface Mount; ComponentLink1Description: Manufacturer URL; ComponentLink1URL: http://www.linear.com/; ComponentLink2Description: Datasheet; ComponentLink2URL: http://cds.linear.com/docs/en/datasheet/1871fe.pdf; ComponentLink3Description: Package Specification; ComponentLink3URL: http://cds.linear.com/docs/en/packaging/05081661_F_MS.pdf
footprint LT-MS-10_N (SOP, 10-Leads, Body 3.1x3.1mm, Pitch 0.5mm, IPC Medium Density)
footprint LT-MS-10_L (SOP, 10-Leads, Body 3.1x3.1mm, Pitch 0.5mm, IPC High Density)
footprint LT-MS-10_M (SOP, 10-Leads, Body 3.1x3.1mm, Pitch 0.5mm, IPC Low Density)
pins: 1 RUN (in) "The RUN pin provides the user with an accurate means for sensing the input voltage and programming the start-up threshold for the converter. The falling RUN pin threshold is nominally 1.248V and the comparator has 100mV of (See Datasheet)", 2 ITH "Error Amplifier Compensation Pin. The current comparator input threshold increases with this control voltage. Nominal voltage range for this pin is 0V to 1.40V.", 3 FB (in) "Receives the feedback voltage from the external resistor divider across the output. Nominal voltage for this pin in regulation is 1.230V.", 4 FREQ (in) "A resistor from the FREQ pin to ground programs the operating frequency of the chip. The nominal voltage at the FREQ pin is 0.6V.", 5 MODE/SYNC (in) "This input controls the operating mode of the converter and allows for synchronizing the operating frequency to an external clock. If the MODE/ SYNC pin is connected to ground, Burst Mode operation is enabled. If the (See Datasheet)", 6 GND (power) "Ground Pin.", 7 GATE (out) "Gate Driver Output.", 8 INTVCC (power) "The Internal Regulator Output. The gate driver and control circuits are powered from this voltage. Decouple this pin locally to the IC ground with a minimum of 4.7uF low ESR tantalum or ceramic capacitor.", 9 VIN (power) "Main Supply Pin. Must be closely decoupled to ground.", 10 SENSE (in) "The Current Sense Input for the Control Loop. Connect this pin to a resistor in the source of the power MOSFET. Alternatively, the SENSE pin may be connected to the drain of the power MOSFET, in applications where the (See Datasheet)"

## LTC1871EMS#TR
designator U?
Wide Input Range, No Rsense Current Mode Boost, Flyback and SEPIC Controller, 10-pin SOP (MS-10), -40 to 85 degC, Tape and Reel; Manufacturer: Linear Technology; PartNumber: LTC1871EMS#TR; Number of Outputs: 1; DatasheetVersion: Rev. E; PackageVersion: Rev. E, 06/2010; PackageReference: MS-10; PackageDescription: 10-Pin Plastic MSOP, Body 3 x 3 mm, Pitch 0.5 mm; Supplier 1: Digi-Key; Supplier Part Number 1: LTC1871EMSTR-ND; Supplier 2: Newark; Supplier Part Number 2: 56M4257; Packing: Tape and Reel; RoHS: FALSE; Mounting Technology: Surface Mount; ComponentLink1Description: Manufacturer URL; ComponentLink1URL: http://www.linear.com/; ComponentLink2Description: Datasheet; ComponentLink2URL: http://cds.linear.com/docs/en/datasheet/1871fe.pdf; ComponentLink3Description: Package Specification; ComponentLink3URL: http://cds.linear.com/docs/en/packaging/05081661_F_MS.pdf
footprint LT-MS-10_N (SOP, 10-Leads, Body 3.1x3.1mm, Pitch 0.5mm, IPC Medium Density)
footprint LT-MS-10_L (SOP, 10-Leads, Body 3.1x3.1mm, Pitch 0.5mm, IPC High Density)
footprint LT-MS-10_M (SOP, 10-Leads, Body 3.1x3.1mm, Pitch 0.5mm, IPC Low Density)
pins: 1 RUN (in) "The RUN pin provides the user with an accurate means for sensing the input voltage and programming the start-up threshold for the converter. The falling RUN pin threshold is nominally 1.248V and the comparator has 100mV of (See Datasheet)", 2 ITH "Error Amplifier Compensation Pin. The current comparator input threshold increases with this control voltage. Nominal voltage range for this pin is 0V to 1.40V.", 3 FB (in) "Receives the feedback voltage from the external resistor divider across the output. Nominal voltage for this pin in regulation is 1.230V.", 4 FREQ (in) "A resistor from the FREQ pin to ground programs the operating frequency of the chip. The nominal voltage at the FREQ pin is 0.6V.", 5 MODE/SYNC (in) "This input controls the operating mode of the converter and allows for synchronizing the operating frequency to an external clock. If the MODE/ SYNC pin is connected to ground, Burst Mode operation is enabled. If the (See Datasheet)", 6 GND (power) "Ground Pin.", 7 GATE (out) "Gate Driver Output.", 8 INTVCC (power) "The Internal Regulator Output. The gate driver and control circuits are powered from this voltage. Decouple this pin locally to the IC ground with a minimum of 4.7uF low ESR tantalum or ceramic capacitor.", 9 VIN (power) "Main Supply Pin. Must be closely decoupled to ground.", 10 SENSE (in) "The Current Sense Input for the Control Loop. Connect this pin to a resistor in the source of the power MOSFET. Alternatively, the SENSE pin may be connected to the drain of the power MOSFET, in applications where the (See Datasheet)"

## LTC1871EMS#TRPBF
designator U?
Wide Input Range, No Rsense Current Mode Boost, Flyback and SEPIC Controller, 10-pin SOP (MS-10), -40 to 85 degC, Pb-Free, Tape and Reel; Manufacturer: Linear Technology; PartNumber: LTC1871EMS#TRPBF; Number of Outputs: 1; DatasheetVersion: Rev. E; PackageVersion: Rev. E, 06/2010; PackageReference: MS-10; PackageDescription: 10-Pin Plastic MSOP, Body 3 x 3 mm, Pitch 0.5 mm; Supplier 1: Digi-Key; Supplier Part Number 1: LTC1871EMS#TRPBF-ND; Supplier 2: Newark; Supplier Part Number 2: 56M4258; Packing: Tape and Reel; RoHS: TRUE; Mounting Technology: Surface Mount; ComponentLink1Description: Manufacturer URL; ComponentLink1URL: http://www.linear.com/; ComponentLink2Description: Datasheet; ComponentLink2URL: http://cds.linear.com/docs/en/datasheet/1871fe.pdf; ComponentLink3Description: Package Specification; ComponentLink3URL: http://cds.linear.com/docs/en/packaging/05081661_F_MS.pdf
footprint LT-MS-10_N (SOP, 10-Leads, Body 3.1x3.1mm, Pitch 0.5mm, IPC Medium Density)
footprint LT-MS-10_L (SOP, 10-Leads, Body 3.1x3.1mm, Pitch 0.5mm, IPC High Density)
footprint LT-MS-10_M (SOP, 10-Leads, Body 3.1x3.1mm, Pitch 0.5mm, IPC Low Density)
pins: 1 RUN (in) "The RUN pin provides the user with an accurate means for sensing the input voltage and programming the start-up threshold for the converter. The falling RUN pin threshold is nominally 1.248V and the comparator has 100mV of (See Datasheet)", 2 ITH "Error Amplifier Compensation Pin. The current comparator input threshold increases with this control voltage. Nominal voltage range for this pin is 0V to 1.40V.", 3 FB (in) "Receives the feedback voltage from the external resistor divider across the output. Nominal voltage for this pin in regulation is 1.230V.", 4 FREQ (in) "A resistor from the FREQ pin to ground programs the operating frequency of the chip. The nominal voltage at the FREQ pin is 0.6V.", 5 MODE/SYNC (in) "This input controls the operating mode of the converter and allows for synchronizing the operating frequency to an external clock. If the MODE/ SYNC pin is connected to ground, Burst Mode operation is enabled. If the (See Datasheet)", 6 GND (power) "Ground Pin.", 7 GATE (out) "Gate Driver Output.", 8 INTVCC (power) "The Internal Regulator Output. The gate driver and control circuits are powered from this voltage. Decouple this pin locally to the IC ground with a minimum of 4.7uF low ESR tantalum or ceramic capacitor.", 9 VIN (power) "Main Supply Pin. Must be closely decoupled to ground.", 10 SENSE (in) "The Current Sense Input for the Control Loop. Connect this pin to a resistor in the source of the power MOSFET. Alternatively, the SENSE pin may be connected to the drain of the power MOSFET, in applications where the (See Datasheet)"

## LTC1871EMS-1#PBF
designator U?
Wide Input Range, No Rsense Current Mode Boost, Flyback and SEPIC Controller, Lower Pulse Skip Threshold, 10-pin SOP (MS-10), -40 to 85 degC, Pb-Free; Manufacturer: Linear Technology; PartNumber: LTC1871EMS-1#PBF; Number of Outputs: 1; DatasheetVersion: Rev. B; PackageVersion: Rev. E, 06/2010; PackageReference: MS-10; PackageDescription: 10-Pin Plastic MSOP, Body 3 x 3 mm, Pitch 0.5 mm; Supplier 1: Digi-Key; Supplier Part Number 1: LTC1871EMS-1#PBF-ND; Supplier 2: Farnell; Supplier Part Number 2: 2295017; Supplier 3: Newark; Supplier Part Number 3: 56M4250; RoHS: TRUE; Mounting Technology: Surface Mount; ComponentLink1Description: Manufacturer URL; ComponentLink1URL: http://www.linear.com/; ComponentLink2Description: Datasheet; ComponentLink2URL: http://cds.linear.com/docs/en/datasheet/18711fb.pdf; ComponentLink3Description: Package Specification; ComponentLink3URL: http://cds.linear.com/docs/en/packaging/05081661_F_MS.pdf
footprint LT-MS-10_N (SOP, 10-Leads, Body 3.1x3.1mm, Pitch 0.5mm, IPC Medium Density)
footprint LT-MS-10_L (SOP, 10-Leads, Body 3.1x3.1mm, Pitch 0.5mm, IPC High Density)
footprint LT-MS-10_M (SOP, 10-Leads, Body 3.1x3.1mm, Pitch 0.5mm, IPC Low Density)
pins: 1 RUN (in) "The RUN pin provides the user with an accurate means for sensing the input voltage and programming the start-up threshold for the converter. The falling RUN pin threshold is nominally 1.248V and the comparator has 100mV of (See Datasheet)", 2 ITH "Error Amplifier Compensation Pin. The current comparator input threshold increases with this control voltage. Nominal voltage range for this pin is 0V to 1.40V.", 3 FB (in) "Receives the feedback voltage from the external resistor divider across the output. Nominal voltage for this pin in regulation is 1.230V.", 4 FREQ (in) "A resistor from the FREQ pin to ground programs the operating frequency of the chip. The nominal voltage at the FREQ pin is 0.6V.", 5 MODE/SYNC (in) "This input controls the operating mode of the converter and allows for synchronizing the operating frequency to an external clock. If the MODE/ SYNC pin is connected to ground, Burst Mode operation is enabled. If the (See Datasheet)", 6 GND (power) "Ground Pin.", 7 GATE (out) "Gate Driver Output.", 8 INTVCC (power) "The Internal Regulator Output. The gate driver and control circuits are powered from this voltage. Decouple this pin locally to the IC ground with a minimum of 4.7uF low ESR tantalum or ceramic capacitor.", 9 VIN (power) "Main Supply Pin. Must be closely decoupled to ground.", 10 SENSE (in) "The Current Sense Input for the Control Loop. Connect this pin to a resistor in the source of the power MOSFET. Alternatively, the SENSE pin may be connected to the drain of the power MOSFET, in applications where the (See Datasheet)"